# EAGLE library part LTC4412 (library AniBike_Common_Library)
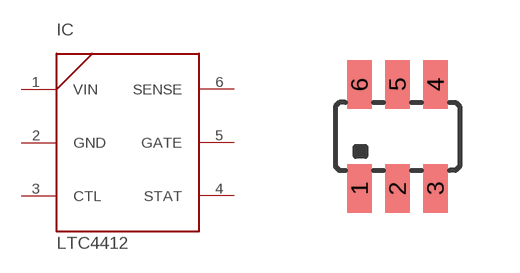
[diagram p4: symbol with the pads of TSOT-23-S6; footprint TSOT-23-S6]

Designator prefix IC

## LTC4412  [TSOT-23-S6]
1  VIN
2  GND
3  CTL
4  STAT
5  GATE
6  SENSE

## Footprint TSOT-23-S6 (pad centres in mm)
smd 0.62 x 1.22: 1 -0.95,-1.3; 2 0,-1.3; 3 0.95,-1.3; 4 0.95,1.3; 5 0,1.3; 6 -0.95,1.3